# Altium integrated library pickit4-connection.IntLib: 1 symbol
Pins are listed as number, name and electrical type; pins without a type are passive.

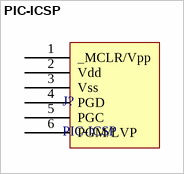
[diagram p0: symbol PIC-ICSP]

## PIC-ICSP
designator J?
footprint PIC-ICSP
pins: 1 _MCLR/Vpp, 2 Vdd, 3 Vss, 4 PGD, 5 PGC, 6 PGM/LVP